# Altium footprint library CAPAE430X550N.PcbLib: 1 footprints
Each footprint in its own frame and in the unit in brackets; x right, y up, seen from the top. Pads: shape width x height; smd on the part's side, far side on the other; paste and mask are expansions set on the pad; w line width, h text height; cw(c..) or ccw(c..) is an arc to the next point about the centre after c.
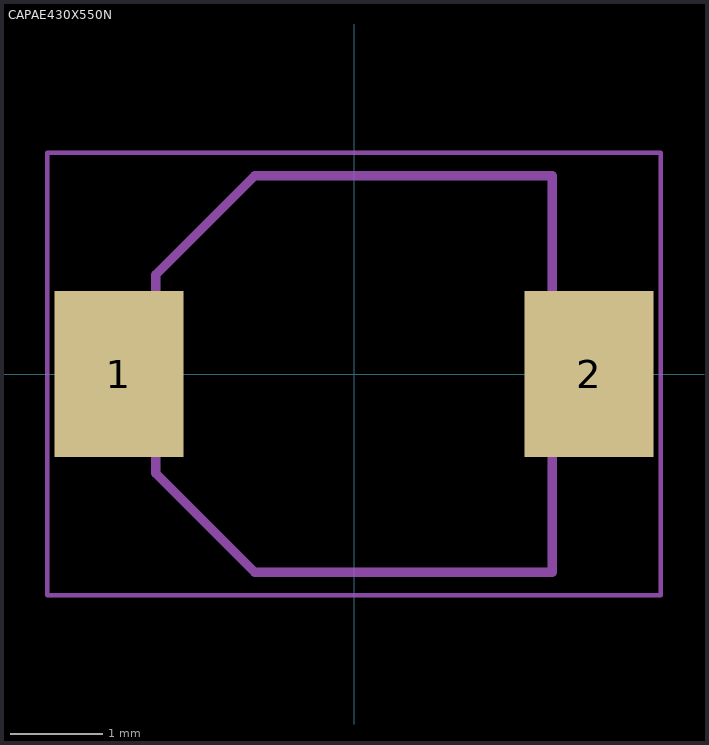
[diagram p0: the footprint, top view; thin cyan lines are the x and y axes]

## CAPAE430X550N [mm]
pads (2):
  rect 1.4x1.8 smd: 1(-2.55,0) 2(2.55,0)
Mechanical 13:
  lines w0.05: -3.324,-2.4 3.324,-2.4 3.324,2.4 -3.324,2.4 -3.324,-2.4
  lines w0.1: -2.15,-1.075 -2.15,1.075 -1.075,2.15 2.15,2.15 2.15,-2.15 -1.075,-2.15 -2.15,-1.075